# Altium footprint library bmsSlave.PcbLib: 14 footprints
Each footprint in its own frame and in the unit in brackets; x right, y up, seen from the top. Pads: shape width x height; smd on the part's side, far side on the other; paste and mask are expansions set on the pad; w line width, h text height; cw(c..) or ccw(c..) is an arc to the next point about the centre after c.
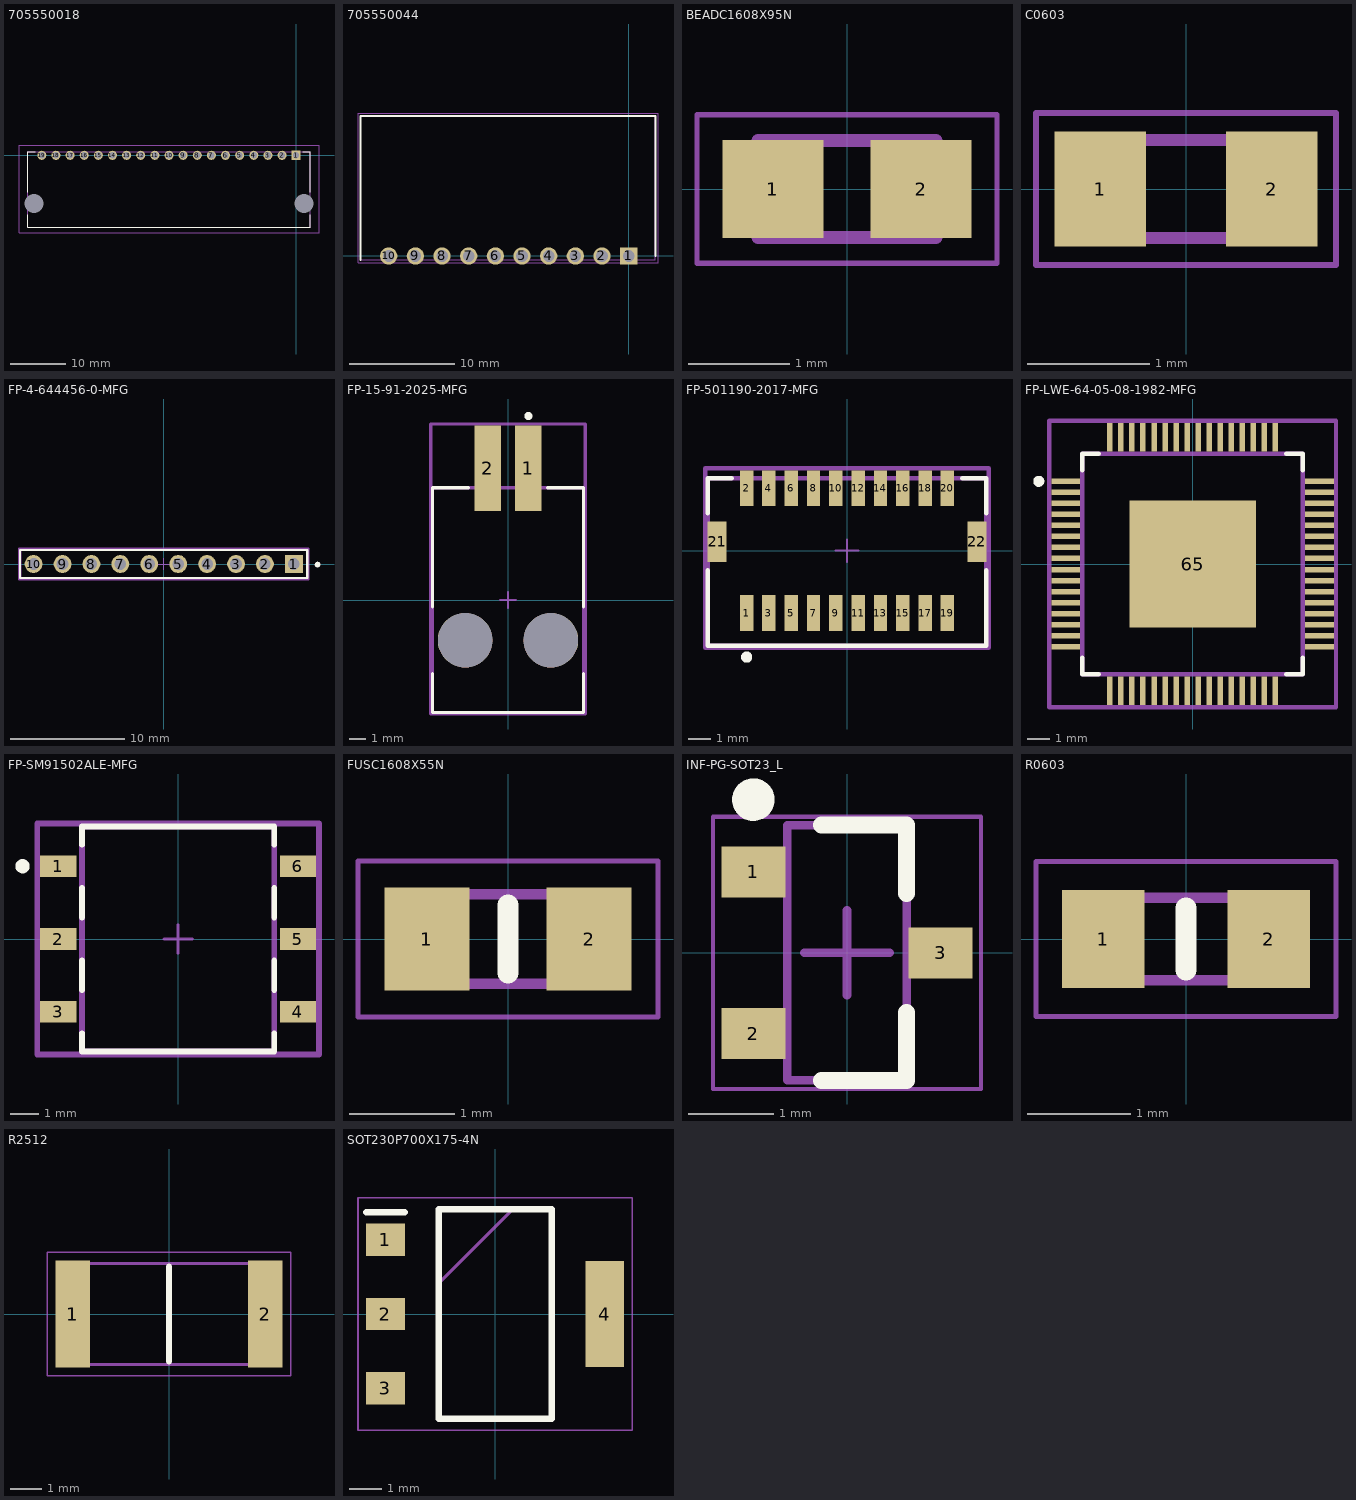
[diagram p0: the footprints below, top view; thin cyan lines are the x and y axes]

## 705550018 [mm]
pads (21):
  rect 1.635x1.635 hole 1.09: 1(0,0)
  round 1.635 hole 1.09: 2(-2.54,0) 3(-5.08,0) 4(-7.62,0) 5(-10.16,0) 6(-12.7,0) 7(-15.24,0) 8(-17.78,0) 9(-20.32,0) 10(-22.86,0) 11(-25.4,0) 12(-27.94,0) 13(-30.48,0) 14(-33.02,0) 15(-35.56,0) 16(-38.1,0) 17(-40.64,0) 18(-43.18,0) 19(-45.72,0)
  round 1.7 hole 3.4 unplated: MH1(1.4,-8.64) MH2(-47.12,-8.64)
Top Overlay:
  lines w0.1: -48.265,-12.94 -48.265,-10.645 -48.265,-12.94 ; -48.265,-12.94 2.545,-12.94 ; -48.265,-12.94 2.545,-12.94 ; -48.265,0.65 -46.86,0.65 -48.265,0.65 ; -48.265,0.65 -48.265,-6.645 -48.265,0.65 ; 2.545,-12.94 2.545,-10.645 2.545,-12.94 ; 2.545,0.65 2.545,-6.645 2.545,0.65 ; 2.545,0.65 1.14,0.65 2.545,0.65
Mechanical 13:
  lines w0.2: -48.265,-12.94 2.545,-12.94 2.545,0.65 -48.265,0.65 -48.265,-12.94
Mechanical 15:
  lines w0.1: -49.82,-13.94 4.1,-13.94 4.1,1.818 -49.82,1.818 -49.82,-13.94
3D body "70555-0018.stp": height 6.56, standoff -3.72, extent -48.895,-12.855 3.175,0.734

## 705550044 [mm]
pads (10):
  rect 1.65x1.65 hole 1.1: 1(0,0)
  round 1.65 hole 1.1: 2(-2.54,0) 3(-5.08,0) 4(-7.62,0) 5(-10.16,0) 6(-12.7,0) 7(-15.24,0) 8(-17.78,0) 9(-20.32,0) 10(-22.86,0)
Top Overlay:
  lines w0.2: -25.535,-0.38 -25.535,13.34 2.545,13.34 2.545,0
Mechanical 13:
  lines w0.1: -25.535,-0.38 2.545,-0.38 2.545,13.34 -25.535,13.34 -25.535,-0.38
Mechanical 15:
  lines w0.05: -25.785,-0.63 2.795,-0.63 2.795,13.59 -25.785,13.59 -25.785,-0.63
3D body "70553-0044.stp": height 6.98, standoff -3.3, extent -25.46,-0.754 2.48,12.835

## BEADC1608X95N [mm]
pads (2):
  rect 1x0.97 smd: 1(-0.735,0) 2(0.735,0)
Mechanical 13:
  lines w0.127: -0.88,-0.48 0.88,-0.48 0.88,0.48 -0.88,0.48 -0.88,-0.48
Mechanical 15:
  lines w0.05: -1.485,-0.735 1.485,-0.735 1.485,0.735 -1.485,0.735 -1.485,-0.735

## C0603 [mm]
pads (2):
  rect 0.75x0.94 smd: 1(-0.7,0) 2(0.7,0)
Mechanical 13:
  lines w0.1: -0.8,-0.4 0.8,-0.4 0.8,0.4 -0.8,0.4 -0.8,-0.4
Mechanical 15:
  lines w0.05: -1.225,-0.62 1.225,-0.62 1.225,0.62 -1.225,0.62 -1.225,-0.62
3D body "GRM188R60J474KA01D.stp": height 0.8, standoff 0, extent -0.8,-0.45 0.8,0.45

## FP-4-644456-0-MFG [mil]
pads (10):
  rect 61.65x61.65 hole 40 paste-99999 mask+0: 1(450,0)
  round 61.65 hole 40 paste-99999 mask+0: 2(350,0) 3(250,0) 4(150,0) 5(50,0) 6(-50,0) 7(-150,0) 8(-250,0) 9(-350,0) 10(-450,0)
Top Overlay:
  circle w9.84: c531.95,-1.97 r4.92
  lines w7.87: -496.59,-48.5 -496.59,48.5 496.59,48.5 496.59,-48.5 -496.59,-48.5
Top 3D Body:
  lines w7.87: -496.5,-48.5 -496.5,48.5 496.5,48.5 496.5,-48.5 -496.5,-48.5
Top Courtyard:
  lines w7.87: -500.44,-52.44 -500.44,52.44 500.44,52.44 500.44,-52.44 -500.44,-52.44
Top Assembly:
  lines w7.87: -500.44,-52.44 -500.44,52.44 500.44,52.44 500.44,-52.44 -500.44,-52.44
  text ".Designator" at 0,7.4 h39.37
Top Component Center:
  lines w3.94: -19.68,0 19.68,0 ; 0,-19.68 0,19.68
3D body "Conn_TE_Connectivity_4-644456-0_eec.STEP": height 10, standoff 0, extent -500.44,-52.44 500.44,52.44

## FP-15-91-2025-MFG [mm]
pads (4):
  rect 1.65x5.33 smd paste+0 mask+0: 1(1.27,8.19) 2(-1.27,8.19)
  round 3.4 hole 3.4 unplated paste-2539.97 mask+0: ""(-2.67,-2.5) ""(2.67,-2.5)
Top Overlay:
  circle w0.25: c1.27,11.45 r0.125
  lines w0.2: -4.7,-4.575 -4.7,-6.99 4.7,-6.99 4.7,-4.575 ; -4.7,-0.425 -4.7,6.99 -2.47,6.99 ; 2.47,6.99 4.7,6.99 4.7,-0.425
Top 3D Body:
  lines w0.2: -4.7,-6.99 -4.7,6.99 4.7,6.99 4.7,-6.99 -4.7,-6.99
Top Courtyard:
  lines w0.2: -4.8,-7.09 -4.8,10.955 4.8,10.955 4.8,-7.09 -4.8,-7.09
Top Assembly:
  lines w0.2: -4.8,-7.09 -4.8,10.955 4.8,10.955 4.8,-7.09 -4.8,-7.09
  text ".Designator" at 0,1.932 h1
Top Component Center:
  lines w0.1: -0.5,0 0.5,0 ; 0,-0.5 0,0.5
3D body "Conn_Molex_15-91-2025_eec.STEP": height 0.25, standoff 0, extent -4.8,-7.09 4.8,10.955

## FP-501190-2017-MFG [mm]
pads (22):
  rect 0.6x1.6 smd paste+0 mask+0: 1(-4.5,-2.8) 2(-4.5,2.8) 3(-3.5,-2.8) 4(-3.5,2.8) 5(-2.5,-2.8) 6(-2.5,2.8) 7(-1.5,-2.8) 8(-1.5,2.8) 9(-0.5,-2.8) 10(-0.5,2.8) 11(0.5,-2.8) 12(0.5,2.8) 13(1.5,-2.8) 14(1.5,2.8) 15(2.5,-2.8) 16(2.5,2.8) 17(3.5,-2.8) 18(3.5,2.8) 19(4.5,-2.8) 20(4.5,2.8)
  rect 0.85x1.8 smd paste+0 mask+0: 21(-5.825,0.4) 22(5.825,0.4)
Top Overlay:
  circle w0.25: c-4.5,-4.775 r0.125
  lines w0.2: -6.25,-0.875 -6.25,-4.265 6.25,-4.265 6.25,-0.875 ; -6.25,1.675 -6.25,3.245 -5.175,3.245 ; 5.175,3.245 6.25,3.245 6.25,1.675
Top 3D Body:
  lines w0.2: -6.25,-4.265 6.25,-4.265 6.25,3.245 -6.25,3.245 -6.25,-4.265
Top Courtyard:
  lines w0.2: -6.35,-4.365 6.35,-4.365 6.35,3.7 -6.35,3.7 -6.35,-4.365
Top Assembly:
  lines w0.2: -6.35,-4.365 6.35,-4.365 6.35,3.7 -6.35,3.7 -6.35,-4.365
  text ".Designator" at 0,-0.333 h1
Top Component Center:
  lines w0.1: -0.5,0 0.5,0 ; 0,-0.5 0,0.5
3D body "Conn_Molex_501190-2017_eec.STEP": height 0.25, standoff 0, extent -6.35,-4.365 6.35,3.7

## FP-LWE-64-05-08-1982-MFG [mm]
pads (65):
  rect 1.3x0.25 smd paste+0 mask+0: 1(-5.75,3.75) 2(-5.75,3.25) 3(-5.75,2.75) 4(-5.75,2.25) 5(-5.75,1.75) 6(-5.75,1.25) 7(-5.75,0.75) 8(-5.75,0.25) 9(-5.75,-0.25) 10(-5.75,-0.75) 11(-5.75,-1.25) 12(-5.75,-1.75) 13(-5.75,-2.25) 14(-5.75,-2.75) 15(-5.75,-3.25) 16(-5.75,-3.75) 33(5.75,-3.75) 34(5.75,-3.25) 35(5.75,-2.75) 36(5.75,-2.25) 37(5.75,-1.75) 38(5.75,-1.25) 39(5.75,-0.75) 40(5.75,-0.25) 41(5.75,0.25) 42(5.75,0.75) 43(5.75,1.25) 44(5.75,1.75) 45(5.75,2.25) 46(5.75,2.75) 47(5.75,3.25) 48(5.75,3.75)
  rect 0.25x1.3 smd paste+0 mask+0: 17(-3.75,-5.75) 18(-3.25,-5.75) 19(-2.75,-5.75) 20(-2.25,-5.75) 21(-1.75,-5.75) 22(-1.25,-5.75) 23(-0.75,-5.75) 24(-0.25,-5.75) 25(0.25,-5.75) 26(0.75,-5.75) 27(1.25,-5.75) 28(1.75,-5.75) 29(2.25,-5.75) 30(2.75,-5.75) 31(3.25,-5.75) 32(3.75,-5.75) 49(3.75,5.75) 50(3.25,5.75) 51(2.75,5.75) 52(2.25,5.75) 53(1.75,5.75) 54(1.25,5.75) 55(0.75,5.75) 56(0.25,5.75) 57(-0.25,5.75) 58(-0.75,5.75) 59(-1.25,5.75) 60(-1.75,5.75) 61(-2.25,5.75) 62(-2.75,5.75) 63(-3.25,5.75) 64(-3.75,5.75)
  rect 5.74x5.74 smd paste+0 mask+0: 65(0,0)
Top Overlay:
  circle w0.25: c-6.975,3.75 r0.125
  lines w0.2: -5,-4.25 -5,-5 -4.25,-5 ; -5,4.25 -5,5 -4.25,5 ; 4.25,-5 5,-5 5,-4.25 ; 4.25,5 5,5 5,4.25
Top 3D Body:
  lines w0.2: -5,-5 -5,5 5,5 5,-5 -5,-5
Top Courtyard:
  lines w0.2: -6.5,-6.5 -6.5,6.5 6.5,6.5 6.5,-6.5 -6.5,-6.5
Top Assembly:
  lines w0.2: -6.5,-6.5 -6.5,6.5 6.5,6.5 6.5,-6.5 -6.5,-6.5
  text ".Designator" at 0,0.188 h1
Top Component Center:
  lines w0.1: -0.5,0 0.5,0 ; 0,-0.5 0,0.5
3D body "IC_Analog_Devices_LTC6813HLWE-1#3ZZPBF_eec.STEP": height 0.25, standoff 0, extent -6.5,-6.5 6.5,6.5

## FP-SM91502ALE-MFG [mm]
pads (6):
  rect 1.27x0.76 smd paste+0 mask+0: 1(-4.19,2.54) 2(-4.19,0) 3(-4.19,-2.54) 4(4.19,-2.54) 5(4.19,0) 6(4.19,2.54)
Top Overlay:
  circle w0.25: c-5.44,2.545 r0.125
  lines w0.2: -3.365,-3.295 -3.365,-3.935 3.365,-3.935 3.365,-3.295 ; -3.365,-1.785 -3.365,-0.755 ; -3.365,0.755 -3.365,1.785 ; -3.365,3.295 -3.365,3.935 3.365,3.935 3.365,3.295 ; 3.365,-1.785 3.365,-0.755 ; 3.365,0.755 3.365,1.785
Top 3D Body:
  lines w0.2: -3.365,-3.935 3.365,-3.935 3.365,3.935 -3.365,3.935 -3.365,-3.935
Top Courtyard:
  lines w0.2: -4.925,-4.035 4.925,-4.035 4.925,4.035 -4.925,4.035 -4.925,-4.035
Top Assembly:
  lines w0.2: -4.925,-4.035 4.925,-4.035 4.925,4.035 -4.925,4.035 -4.925,-4.035
  text ".Designator" at 0,0.188 h1
Top Component Center:
  lines w0.1: -0.5,0 0.5,0 ; 0,-0.5 0,0.5
3D body "Trans_Bourns_SM91502ALE_eec.STEP": height 0.25, standoff 0, extent -4.925,-4.035 4.925,4.035

## FUSC1608X55N [mm]
pads (2):
  rect 0.81x0.98 smd: 1(-0.77,0) 2(0.77,0)
Top Overlay:
  lines w0.2: 0,-0.325 0,0.325
Mechanical 13:
  lines w0.1: -0.775,-0.425 0.775,-0.425 0.775,0.425 -0.775,0.425 -0.775,-0.425
Mechanical 15:
  lines w0.05: -1.425,-0.74 1.425,-0.74 1.425,0.74 -1.425,0.74 -1.425,-0.74
3D body "MFU0603FF00500P500.stp": height 0.55, standoff 0, extent -0.775,-0.425 0.775,0.425

## INF-PG-SOT23_L [mm] "SOT23, 3-Leads, Body 2.9x1.3mm, Pitch 0.95mm, IPC High Density"
height 1.1
pads (3):
  rect 0.75x0.6 smd: 1(-1.1,0.95) 2(-1.1,-0.95) 3(1.1,0)
Top Overlay:
  circle w0.25: c-1.1,1.8 r0.125
  lines w0.2: -0.3,-1.5 0.7,-1.5 0.7,-0.7 ; -0.3,1.5 0.7,1.5 0.7,0.7
Mechanical 13:
  lines w0.1: -0.7,-1.5 0.7,-1.5 0.7,1.5 -0.7,1.5 -0.7,-1.5
Mechanical 15:
  lines w0.05: -1.575,-1.6 1.575,-1.6 1.575,1.6 -1.575,1.6 -1.575,-1.6
  lines w0.1: -0.5,0 0.5,0 ; 0,-0.5 0,0.5
3D body: height 1.1, standoff 0.1, extent -0.7,-1.5 0.7,1.5

## R0603 [mm]
pads (2):
  rect 0.8x0.95 smd: 1(-0.8,0) 2(0.8,0)
Top Overlay:
  lines w0.2: 0,-0.3 0,0.3
Mechanical 13:
  lines w0.1: -0.8,-0.4 -0.8,0.4 0.8,0.4 0.8,-0.4 -0.8,-0.4
Mechanical 15:
  lines w0.05: -1.45,-0.75 -1.45,0.75 1.45,0.75 1.45,-0.75 -1.45,-0.75
3D body "RC0603FR-070RL.stp": height 0.55, standoff 0, extent -0.8,-0.4 0.8,0.4

## R2512 [mm]
pads (2):
  rect 1.1x3.4 smd: 1(-3.05,0) 2(3.05,0)
Top Overlay:
  lines w0.2: 0,-1.5 0,1.5
Mechanical 13:
  lines w0.1: -3.175,-1.6 -3.175,1.6 3.175,1.6 3.175,-1.6 -3.175,-1.6
Mechanical 15:
  lines w0.05: -3.85,-1.95 -3.85,1.95 3.85,1.95 3.85,-1.95 -3.85,-1.95
3D body "CRGCQ2512F33R.stp": height 0.65, standoff 0, extent -3.175,-1.6 3.175,1.6

## SOT230P700X175-4N [mm]
pads (4):
  rect 1.2x1 smd: 1(-3.4,2.3) 2(-3.4,0) 3(-3.4,-2.3)
  rect 1.2x3.3 smd: 4(3.4,0)
Top Overlay:
  lines w0.2: -4,3.15 -2.8,3.15 ; -1.75,-3.25 -1.75,3.25 1.75,3.25 1.75,-3.25 -1.75,-3.25
Mechanical 15:
  lines w0.1: -1.75,0.95 0.55,3.25 ; -1.75,-3.25 -1.75,3.25 1.75,3.25 1.75,-3.25 -1.75,-3.25
Bottom Assembly:
  lines w0.05: -4.25,-3.6 -4.25,3.6 4.25,3.6 4.25,-3.6 -4.25,-3.6